# EAGLE library part EADOGMXXX-A (library pimoroni)
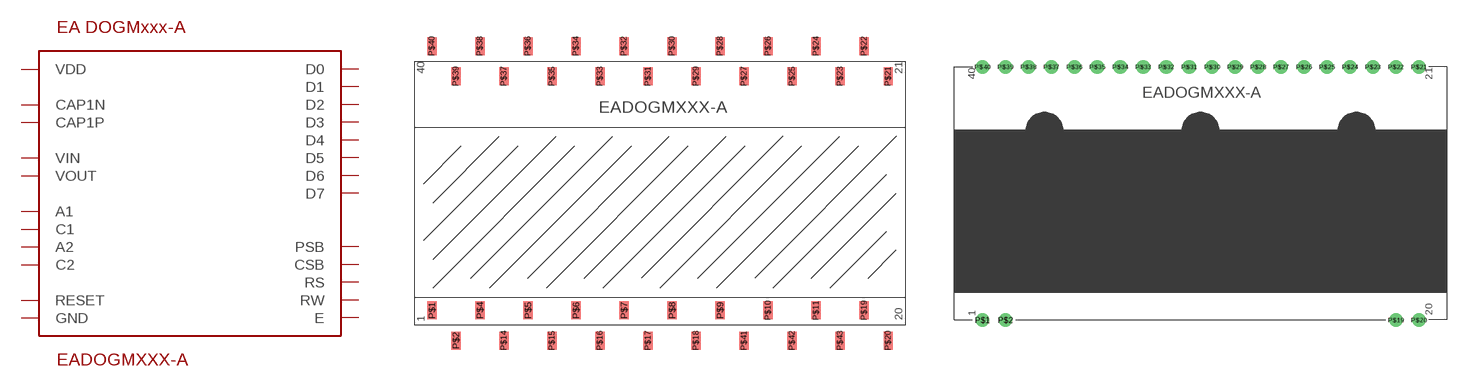
[diagram p24: symbol with the pads of EADOGMXXX-A-SMT; footprints EADOGMXXX-A-SMT, EADOGMXXX-A-PTH]

Designator prefix -

## EADOGMXXX-ASMT  [EADOGMXXX-A-SMT]
P$1  A1
P$2  C1
P$19  C2
P$20  A2
P$21  CAP1N
P$22  CAP1P
P$23  PSB
P$24  VOUT
P$25  VIN
P$26  VDD
P$27  GND
P$28  D7
P$29  D6
P$30  D5
P$31  D4
P$32  D3
P$33  D2
P$34  D1
P$35  D0
P$36  E
P$37  RW
P$38  CSB
P$39  RS
P$40  RESET

## EADOGMXXX-APTH  [EADOGMXXX-A-PTH]
Pads as for EADOGMXXX-A-SMT

## Footprint EADOGMXXX-A-SMT (pad centres in mm)
smd 1 x 1.9: P$1 -24.12,-12.4; P$2 -21.58,-15.59; P$4 -19.04,-12.4; P$5 -13.96,-12.4; P$6 -8.88,-12.4; P$7 -3.8,-12.4; P$8 1.28,-12.4; P$9 6.36,-12.4; P$10 11.44,-12.4; P$11 16.52,-12.4; P$14 -16.5,-15.59; P$15 -11.42,-15.59; P$16 -6.34,-15.59; P$17 -1.26,-15.59; P$18 3.82,-15.59; P$19 21.6,-12.4; P$20 24.14,-15.59; P$21 24.14,12.36; P$22 21.6,15.55; P$23 19.06,12.36; P$24 16.52,15.55; P$25 13.98,12.36; P$26 11.44,15.55; P$27 8.9,12.36; P$28 6.36,15.55; P$29 3.82,12.36; P$30 1.28,15.55; P$31 -1.26,12.36; P$32 -3.8,15.55; P$33 -6.34,12.36; P$34 -8.88,15.55; P$35 -11.42,12.36; P$36 -13.96,15.55; P$37 -16.5,12.36; P$38 -19.04,15.55; P$39 -21.58,12.36; P$40 -24.12,15.55; P$41 8.9,-15.59; P$42 13.98,-15.59; P$43 19.06,-15.59

## Footprint EADOGMXXX-A-PTH (pad centres in mm)
drill 1: P$1 -22.86,-14.03; P$2 -20.32,-14.03; P$19 22.86,-14.03; P$20 25.4,-14.03; P$21 25.4,13.97; P$22 22.86,13.97; P$23 20.32,13.97; P$24 17.78,13.97; P$25 15.24,13.97; P$26 12.7,13.97; P$27 10.16,13.97; P$28 7.62,13.97; P$29 5.08,13.97; P$30 2.54,13.97; P$31 0,13.97; P$32 -2.54,13.97; P$33 -5.08,13.97; P$34 -7.62,13.97; P$35 -10.16,13.97; P$36 -12.7,13.97; P$37 -15.24,13.97; P$38 -17.78,13.97; P$39 -20.32,13.97; P$40 -22.86,13.97